# EAGLE library part SNES_MROM (library custom)
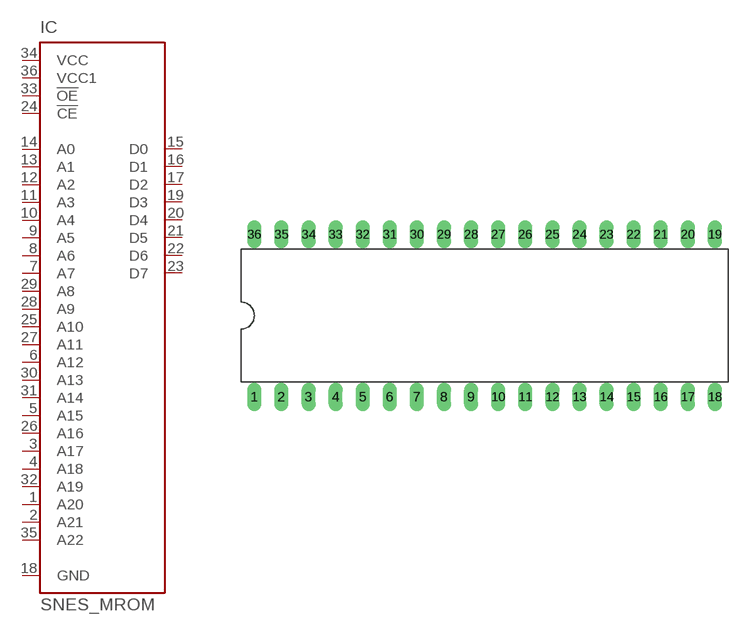
[diagram p1: symbol with the pads of FDIP36W; footprint FDIP36W]

Designator prefix IC

## SNES_MROM  [FDIP36W]
1  A20  in
2  A21  in
3  A17  in
4  A18  in
5  A15  in
6  A12  in
7  A7  in
8  A6  in
9  A5  in
10  A4  in
11  A3  in
12  A2  in
13  A1  in
14  A0  in
15  D0  hiz
16  D1  hiz
17  D2  hiz
18  GND  pwr
19  D3  hiz
20  D4  hiz
21  D5  hiz
22  D6  hiz
23  D7  hiz
24  !CE  in
25  A10  in
26  A16  in
27  A11  in
28  A9  in
29  A8  in
30  A13  in
31  A14  in
32  A19  in
33  !OE  in
34  VCC  pwr
35  A22  in
36  VCC1  pwr

## Footprint FDIP36W (pad centres in mm)
drill 0.813 long: 1 -19.05,-8.89; 2 -16.51,-8.89; 3 -13.97,-8.89; 4 -11.43,-8.89; 5 -8.89,-8.89; 6 -6.35,-8.89; 7 -3.81,-8.89; 8 -1.27,-8.89; 9 1.27,-8.89; 10 3.81,-8.89; 11 6.35,-8.89; 12 8.89,-8.89; 13 11.43,-8.89; 14 13.97,-8.89; 15 16.51,-8.89; 16 19.05,-8.89; 17 21.59,-8.89; 18 24.13,-8.89; 19 24.13,6.35; 20 21.59,6.35; 21 19.05,6.35; 22 16.51,6.35; 23 13.97,6.35; 24 11.43,6.35; 25 8.89,6.35; 26 6.35,6.35; 27 3.81,6.35; 28 1.27,6.35; 29 -1.27,6.35; 30 -3.81,6.35; 31 -6.35,6.35; 32 -8.89,6.35; 33 -11.43,6.35; 34 -13.97,6.35; 35 -16.51,6.35; 36 -19.05,6.35